# EAGLE library part SI4468 (library Master)
SI4468 - Low Current RF Transciever Specification: Max Output: +20dBm Max Data Rate: 1Mbps Power: 1.8 - 3.8 V Frequency Range: 142 - 1050 MHz
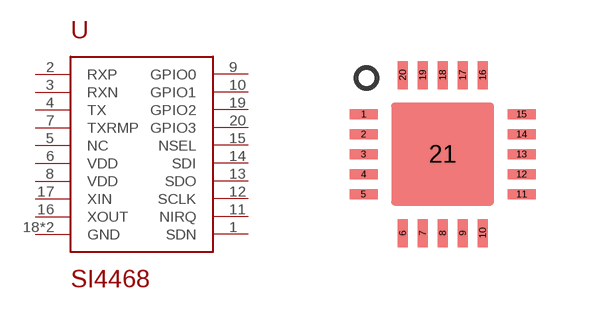
[diagram p0: symbol with the pads of QFN20-SI; footprint QFN20-SI]

Designator prefix U

## SI4468  [QFN20-SI]
1  SDN
2  RXP
3  RXN
4  TX
5  NC  nc
6  VDD  pwr
7  TXRMP
8  VDD  pwr
9  GPIO0
10  GPIO1
11  NIRQ
12  SCLK
13  SDO
14  SDI
15  NSEL
16  XOUT
17  XIN
18  GND  pwr
19  GPIO2
20  GPIO3
21  GND  pwr

## Footprint QFN20-SI (pad centres in mm)
smd 0.7 x 0.25: 1 -1.975,1; 2 -1.975,0.5; 3 -1.975,0; 4 -1.975,-0.5; 5 -1.975,-1; 11 1.975,-1; 12 1.975,-0.5; 13 1.975,0; 14 1.975,0.5; 15 1.975,1
smd 0.25 x 0.7: 6 -1,-1.975; 7 -0.5,-1.975; 8 0,-1.975; 9 0.5,-1.975; 10 1,-1.975; 16 1,1.975; 17 0.5,1.975; 18 0,1.975; 19 -0.5,1.975; 20 -1,1.975
smd 1.27 x 0.635: 21 0,0